# Altium footprint library Mechanical.PcbLib: 61 footprints (part 2 of 4)
Each footprint in its own frame and in the unit in brackets; x right, y up, seen from the top. Pads: shape width x height; smd on the part's side, far side on the other; paste and mask are expansions set on the pad; w line width, h text height; cw(c..) or ccw(c..) is an arc to the next point about the centre after c.
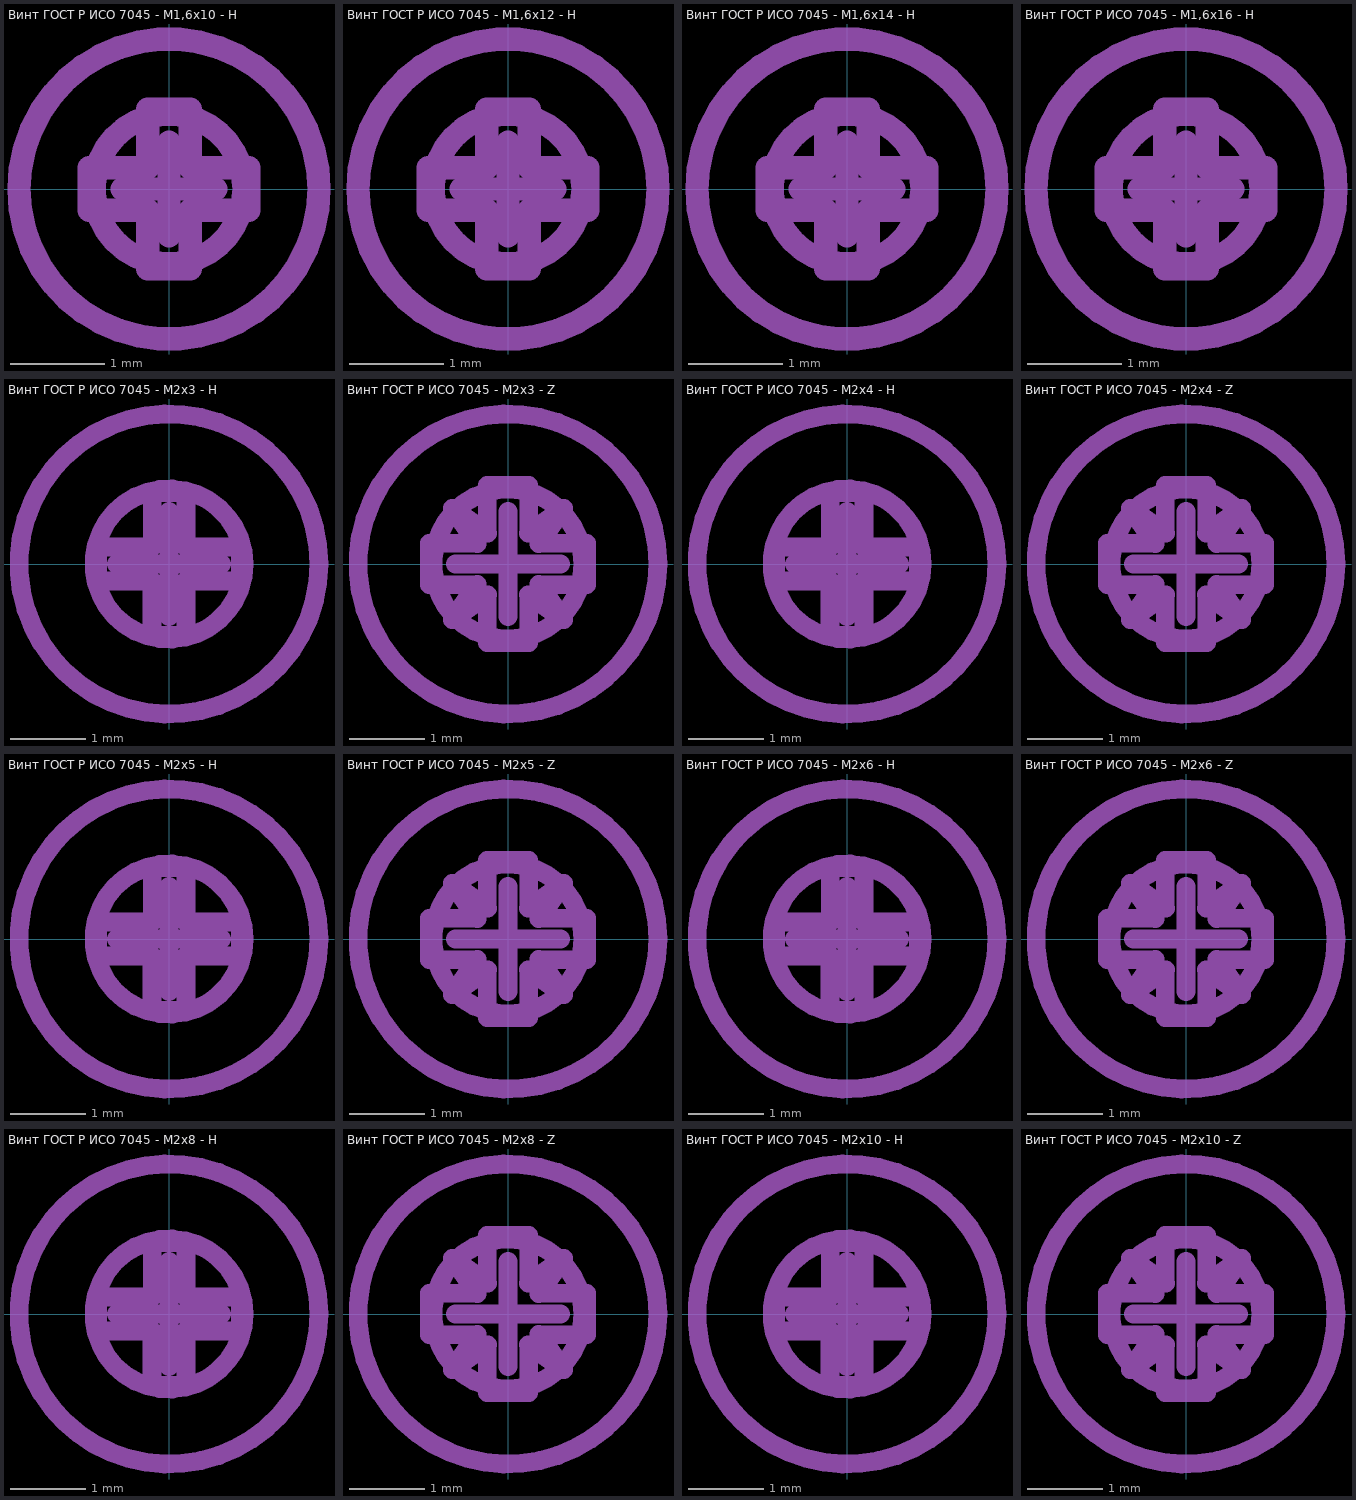
[diagram p1: the footprints below, top view; thin cyan lines are the x and y axes]

## Винт ГОСТ Р ИСО 7045 - М1,6x10 - H [mm] "Винт со скругленной головкой ГОСТ Р ИСО 7045 - М1,6x10 - H"
height 1.3
Top Assembly:
  circle w0.25: c0,0 r1.6
  lines w0.25: -0.85,-0.225 -0.225,-0.225 -0.225,-0.85 0.225,-0.85 0.225,-0.225 0.85,-0.225 0.85,0.225 0.225,0.225 0.225,0.85 -0.225,0.85 -0.225,0.225 -0.85,0.225 -0.85,-0.225
Top Mech:
  circle w0.25: c0,0 r0.8
  lines w0.25: -0.5,0 0.5,0 ; 0,-0.5 0,0.5
3D body "ГОСТ Р ИСО 7045 - M1,6x10 - H.STEP": height 1.29, standoff -9.99, extent -1.6,-1.6 1.6,1.6

## Винт ГОСТ Р ИСО 7045 - М1,6x12 - H [mm] "Винт со скругленной головкой ГОСТ Р ИСО 7045 - М1,6x12 - H"
height 1.3
Top Assembly:
  circle w0.25: c0,0 r1.6
  lines w0.25: -0.85,-0.225 -0.85,0.225 -0.225,0.225 -0.225,0.85 0.225,0.85 0.225,0.225 0.85,0.225 0.85,-0.225 0.225,-0.225 0.225,-0.85 -0.225,-0.85 -0.225,-0.225 -0.85,-0.225
Top Mech:
  circle w0.25: c0,0 r0.8
  lines w0.25: -0.5,0 0.5,0 ; 0,-0.5 0,0.5
3D body "ГОСТ Р ИСО 7045 - M1,6x12 - H.STEP": height 1.29, standoff -11.99, extent -1.6,-1.6 1.6,1.6

## Винт ГОСТ Р ИСО 7045 - М1,6x14 - H [mm] "Винт со скругленной головкой ГОСТ Р ИСО 7045 - М1,6x14 - H"
height 1.3
Top Assembly:
  circle w0.25: c0,0 r1.6
  lines w0.25: -0.85,-0.225 -0.85,0.225 -0.225,0.225 -0.225,0.85 0.225,0.85 0.225,0.225 0.85,0.225 0.85,-0.225 0.225,-0.225 0.225,-0.85 -0.225,-0.85 -0.225,-0.225 -0.85,-0.225
Top Mech:
  circle w0.25: c0,0 r0.8
  lines w0.25: -0.5,0 0.5,0 ; 0,-0.5 0,0.5
3D body "ГОСТ Р ИСО 7045 - M1,6x14 - H.STEP": height 1.29, standoff -13.99, extent -1.6,-1.6 1.6,1.6

## Винт ГОСТ Р ИСО 7045 - М1,6x16 - H [mm] "Винт со скругленной головкой ГОСТ Р ИСО 7045 - М1,6x16 - H"
height 1.3
Top Assembly:
  circle w0.25: c0,0 r1.6
  lines w0.25: -0.85,-0.225 -0.85,0.225 -0.225,0.225 -0.225,0.85 0.225,0.85 0.225,0.225 0.85,0.225 0.85,-0.225 0.225,-0.225 0.225,-0.85 -0.225,-0.85 -0.225,-0.225 -0.85,-0.225
Top Mech:
  circle w0.25: c0,0 r0.8
  lines w0.25: -0.5,0 0.5,0 ; 0,-0.5 0,0.5
3D body "ГОСТ Р ИСО 7045 - M1,6x16 - H.STEP": height 1.29, standoff -15.99, extent -1.6,-1.6 1.6,1.6

## Винт ГОСТ Р ИСО 7045 - М2x3 - H [mm] "Винт со скругленной головкой ГОСТ Р ИСО 7045 - М2x3 - H"
height 1.6
Top Assembly:
  circle w0.25: c0,0 r2
  lines w0.25: -0.95,-0.225 -0.225,-0.225 -0.225,-0.95 0.225,-0.95 0.225,-0.225 0.95,-0.225 0.95,0.225 0.225,0.225 0.225,0.95 -0.225,0.95 -0.225,0.225 -0.95,0.225 -0.95,-0.225
Top Mech:
  circle w0.25: c0,0 r1
  lines w0.25: -0.7,0 0.7,0 ; 0,-0.7 0,0.7
3D body "ГОСТ Р ИСО 7045 - M2x3 - H.STEP": height 1.6, standoff -2.99, extent -2,-2 2,2

## Винт ГОСТ Р ИСО 7045 - М2x3 - Z [mm] "Винт со скругленной головкой ГОСТ Р ИСО 7045 - М2x3 - Z"
height 1.6
Top Assembly:
  circle w0.25: c0,0 r2
  lines w0.25: -0.411,-0.275 -1.05,-0.275 -1.05,0.275 -0.411,0.275 ; -0.411,-0.269 -0.742,-0.742 -0.269,-0.411 ; -0.411,0.269 -0.742,0.742 -0.269,0.411 ; -0.275,-0.411 -0.275,-1.05 0.275,-1.05 0.275,-0.411 ; -0.275,0.411 -0.275,1.05 0.275,1.05 0.275,0.411 ; 0.269,-0.411 0.742,-0.742 0.411,-0.269 ; 0.269,0.411 0.742,0.742 0.411,0.269 ; 0.411,-0.275 1.05,-0.275 1.05,0.275 0.411,0.275
Top Mech:
  circle w0.25: c0,0 r1
  lines w0.25: -0.7,0 0.7,0 ; 0,-0.7 0,0.7
3D body "ГОСТ Р ИСО 7045 - M2x3 - Z.STEP": height 1.57, standoff -2.99, extent -2,-2 2,2

## Винт ГОСТ Р ИСО 7045 - М2x4 - H [mm] "Винт со скругленной головкой ГОСТ Р ИСО 7045 - М2x4 - H"
height 1.6
Top Assembly:
  circle w0.25: c0,0 r2
  lines w0.25: -0.95,-0.225 -0.225,-0.225 -0.225,-0.95 0.225,-0.95 0.225,-0.225 0.95,-0.225 0.95,0.225 0.225,0.225 0.225,0.95 -0.225,0.95 -0.225,0.225 -0.95,0.225 -0.95,-0.225
Top Mech:
  circle w0.25: c0,0 r1
  lines w0.25: -0.7,0 0.7,0 ; 0,-0.7 0,0.7
3D body "ГОСТ Р ИСО 7045 - M2x4 - H.STEP": height 1.6, standoff -3.99, extent -2,-2 2,2

## Винт ГОСТ Р ИСО 7045 - М2x4 - Z [mm] "Винт со скругленной головкой ГОСТ Р ИСО 7045 - М2x4 - Z"
height 1.6
Top Assembly:
  circle w0.25: c0,0 r2
  lines w0.25: -0.411,-0.275 -1.05,-0.275 -1.05,0.275 -0.411,0.275 ; -0.411,-0.269 -0.742,-0.742 -0.269,-0.411 ; -0.411,0.269 -0.742,0.742 -0.269,0.411 ; -0.275,-0.411 -0.275,-1.05 0.275,-1.05 0.275,-0.411 ; -0.275,0.411 -0.275,1.05 0.275,1.05 0.275,0.411 ; 0.269,-0.411 0.742,-0.742 0.411,-0.269 ; 0.269,0.411 0.742,0.742 0.411,0.269 ; 0.411,-0.275 1.05,-0.275 1.05,0.275 0.411,0.275
Top Mech:
  circle w0.25: c0,0 r1
  lines w0.25: -0.7,0 0.7,0 ; 0,-0.7 0,0.7
3D body "ГОСТ Р ИСО 7045 - M2x4 - Z.STEP": height 1.57, standoff -3.99, extent -2,-2 2,2

## Винт ГОСТ Р ИСО 7045 - М2x5 - H [mm] "Винт со скругленной головкой ГОСТ Р ИСО 7045 - М2x5 - H"
height 1.6
Top Assembly:
  circle w0.25: c0,0 r2
  lines w0.25: -0.95,-0.225 -0.95,0.225 -0.225,0.225 -0.225,0.95 0.225,0.95 0.225,0.225 0.95,0.225 0.95,-0.225 0.225,-0.225 0.225,-0.95 -0.225,-0.95 -0.225,-0.225 -0.95,-0.225
Top Mech:
  circle w0.25: c0,0 r1
  lines w0.25: -0.7,0 0.7,0 ; 0,-0.7 0,0.7
3D body "ГОСТ Р ИСО 7045 - M2x5 - H.STEP": height 1.6, standoff -4.99, extent -2,-2 2,2

## Винт ГОСТ Р ИСО 7045 - М2x5 - Z [mm] "Винт со скругленной головкой ГОСТ Р ИСО 7045 - М2x5 - Z"
height 1.6
Top Assembly:
  circle w0.25: c0,0 r2
  lines w0.25: -0.411,-0.275 -1.05,-0.275 -1.05,0.275 -0.411,0.275 ; -0.411,-0.269 -0.742,-0.742 -0.269,-0.411 ; -0.411,0.269 -0.742,0.742 -0.269,0.411 ; -0.275,-0.411 -0.275,-1.05 0.275,-1.05 0.275,-0.411 ; -0.275,0.411 -0.275,1.05 0.275,1.05 0.275,0.411 ; 0.269,-0.411 0.742,-0.742 0.411,-0.269 ; 0.269,0.411 0.742,0.742 0.411,0.269 ; 0.411,-0.275 1.05,-0.275 1.05,0.275 0.411,0.275
Top Mech:
  circle w0.25: c0,0 r1
  lines w0.25: -0.7,0 0.7,0 ; 0,-0.7 0,0.7
3D body "ГОСТ Р ИСО 7045 - M2x5 - Z.STEP": height 1.57, standoff -4.99, extent -2,-2 2,2

## Винт ГОСТ Р ИСО 7045 - М2x6 - H [mm] "Винт со скругленной головкой ГОСТ Р ИСО 7045 - М2x6 - H"
height 1.6
Top Assembly:
  circle w0.25: c0,0 r2
  lines w0.25: -0.95,-0.225 -0.225,-0.225 -0.225,-0.95 0.225,-0.95 0.225,-0.225 0.95,-0.225 0.95,0.225 0.225,0.225 0.225,0.95 -0.225,0.95 -0.225,0.225 -0.95,0.225 -0.95,-0.225
Top Mech:
  circle w0.25: c0,0 r1
  lines w0.25: -0.7,0 0.7,0 ; 0,-0.7 0,0.7
3D body "ГОСТ Р ИСО 7045 - M2x6 - H.STEP": height 1.6, standoff -5.99, extent -2,-2 2,2

## Винт ГОСТ Р ИСО 7045 - М2x6 - Z [mm] "Винт со скругленной головкой ГОСТ Р ИСО 7045 - М2x6 - Z"
height 1.6
Top Assembly:
  circle w0.25: c0,0 r2
  lines w0.25: -0.411,-0.275 -1.05,-0.275 -1.05,0.275 -0.411,0.275 ; -0.411,-0.269 -0.742,-0.742 -0.269,-0.411 ; -0.411,0.269 -0.742,0.742 -0.269,0.411 ; -0.275,-0.411 -0.275,-1.05 0.275,-1.05 0.275,-0.411 ; -0.275,0.411 -0.275,1.05 0.275,1.05 0.275,0.411 ; 0.269,-0.411 0.742,-0.742 0.411,-0.269 ; 0.269,0.411 0.742,0.742 0.411,0.269 ; 0.411,-0.275 1.05,-0.275 1.05,0.275 0.411,0.275
Top Mech:
  circle w0.25: c0,0 r1
  lines w0.25: -0.7,0 0.7,0 ; 0,-0.7 0,0.7
3D body "ГОСТ Р ИСО 7045 - M2x6 - Z.STEP": height 1.57, standoff -5.99, extent -2,-2 2,2

## Винт ГОСТ Р ИСО 7045 - М2x8 - H [mm] "Винт со скругленной головкой ГОСТ Р ИСО 7045 - М2x8 - H"
height 1.6
Top Assembly:
  circle w0.25: c0,0 r2
  lines w0.25: -0.95,-0.225 -0.225,-0.225 -0.225,-0.95 0.225,-0.95 0.225,-0.225 0.95,-0.225 0.95,0.225 0.225,0.225 0.225,0.95 -0.225,0.95 -0.225,0.225 -0.95,0.225 -0.95,-0.225
Top Mech:
  circle w0.25: c0,0 r1
  lines w0.25: -0.7,0 0.7,0 ; 0,-0.7 0,0.7
3D body "ГОСТ Р ИСО 7045 - M2x8 - H.STEP": height 1.6, standoff -7.99, extent -2,-2 2,2

## Винт ГОСТ Р ИСО 7045 - М2x8 - Z [mm] "Винт со скругленной головкой ГОСТ Р ИСО 7045 - М2x8 - Z"
height 1.6
Top Assembly:
  circle w0.25: c0,0 r2
  lines w0.25: -0.411,-0.275 -1.05,-0.275 -1.05,0.275 -0.411,0.275 ; -0.411,-0.269 -0.742,-0.742 -0.269,-0.411 ; -0.411,0.269 -0.742,0.742 -0.269,0.411 ; -0.275,-0.411 -0.275,-1.05 0.275,-1.05 0.275,-0.411 ; -0.275,0.411 -0.275,1.05 0.275,1.05 0.275,0.411 ; 0.269,-0.411 0.742,-0.742 0.411,-0.269 ; 0.269,0.411 0.742,0.742 0.411,0.269 ; 0.411,-0.275 1.05,-0.275 1.05,0.275 0.411,0.275
Top Mech:
  circle w0.25: c0,0 r1
  lines w0.25: -0.7,0 0.7,0 ; 0,-0.7 0,0.7
3D body "ГОСТ Р ИСО 7045 - M2x8 - Z.STEP": height 1.57, standoff -7.99, extent -2,-2 2,2

## Винт ГОСТ Р ИСО 7045 - М2x10 - H [mm] "Винт со скругленной головкой ГОСТ Р ИСО 7045 - М2x10 - H"
height 1.6
Top Assembly:
  circle w0.25: c0,0 r2
  lines w0.25: -0.95,-0.225 -0.225,-0.225 -0.225,-0.95 0.225,-0.95 0.225,-0.225 0.95,-0.225 0.95,0.225 0.225,0.225 0.225,0.95 -0.225,0.95 -0.225,0.225 -0.95,0.225 -0.95,-0.225
Top Mech:
  circle w0.25: c0,0 r1
  lines w0.25: -0.7,0 0.7,0 ; 0,-0.7 0,0.7
3D body "ГОСТ Р ИСО 7045 - M2x10 - H.STEP": height 1.6, standoff -9.99, extent -2,-2 2,2

## Винт ГОСТ Р ИСО 7045 - М2x10 - Z [mm] "Винт со скругленной головкой ГОСТ Р ИСО 7045 - М2x10 - Z"
height 1.6
Top Assembly:
  circle w0.25: c0,0 r2
  lines w0.25: -0.411,-0.275 -1.05,-0.275 -1.05,0.275 -0.411,0.275 ; -0.411,-0.269 -0.742,-0.742 -0.269,-0.411 ; -0.411,0.269 -0.742,0.742 -0.269,0.411 ; -0.275,-0.411 -0.275,-1.05 0.275,-1.05 0.275,-0.411 ; -0.275,0.411 -0.275,1.05 0.275,1.05 0.275,0.411 ; 0.269,-0.411 0.742,-0.742 0.411,-0.269 ; 0.269,0.411 0.742,0.742 0.411,0.269 ; 0.411,-0.275 1.05,-0.275 1.05,0.275 0.411,0.275
Top Mech:
  circle w0.25: c0,0 r1
  lines w0.25: -0.7,0 0.7,0 ; 0,-0.7 0,0.7
3D body "ГОСТ Р ИСО 7045 - M2x10 - Z.STEP": height 1.57, standoff -9.99, extent -2,-2 2,2